# Altium schematic symbol library TL750M.SchLib: 1 symbol
Pins are listed as number, name and electrical type; pins without a type are passive.

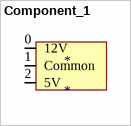
[diagram p0: symbol Component_1]

## Component_1
designator *
footprint PCBComponent_1
pins: 0 12V (in), 1 Common, 2 5V (out)